# Altium schematic symbol library 53261-7002.SchLib: 1 symbol
Pins are listed as number, name and electrical type; pins without a type are passive.

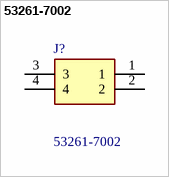
[diagram p0: symbol 53261-7002]

## 53261-7002
designator J?
Headers & Wire Housings PicoBlade SMT RA PKG 0.38 GOLD 2P; Manufacturer_Name: Molex; Geometry.Height: 3.4mm; Mouser Part Number: 538-53261-7002; Mouser Price/Stock: https://www.mouser.co.uk/ProductDetail/Molex/53261-7002?qs=0lSvoLzn4L%2F9TYfu1Dmicg%3D%3D; Manufacturer_Part_Number: 53261-7002; Datasheet Link: https://www.molex.com/pdm_docs/sd/532617002_sd.pdf
footprint 532617002
pins: 1, 2, 3, 4